# Altium schematic symbol library Passive.SchLib: 5 symbols
Pins are listed as number, name and electrical type; pins without a type are passive.

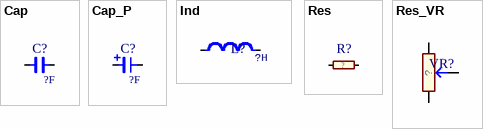
[diagram p0: symbols Cap to Res_VR]

## Cap
designator C?  value ?F  (hidden comment: *)
footprint CAP_0603
footprint CAP_0805
footprint CAP_1206
pins: 1, 2

## Cap_P
designator C?  value ?F  (hidden comment: *)
footprint CAP_TAN_P0805
footprint CAP_TAN_A1206
footprint CAP_PR_SMD_6.3
footprint CAP_PR_SMD_8.3
pins: 1, 2

## Ind
designator L?  value ?H
Inductor; Specification: ±5% 100mA; Manufacturer: *
footprint IND_0402
footprint IND_0805
footprint IND_0603
footprint IND_CD32
footprint IND_CDRH74
footprint IND_SLF10145
footprint IND_CD75
pins: 1, 2

## Res
designator R?  (value not drawn)
Value: ?
footprint RES_0402
footprint RES_0603
footprint RES_0805
footprint RES_2512M
footprint RES_2512
pins: 1, 2

## Res_VR
designator VR?, comment VR  (value not drawn)
Resistor Variable; Specification: ±5%; Manufacturer: *; Value: ?
footprint RES_VR_Gear
footprint RES_VR_3296W
footprint RES_VR_EVM3G/E
pins: 1, 2, 3